# Altium schematic symbol library T491D106K035AT.SchLib: 1 symbol
Pins are listed as number, name and electrical type; pins without a type are passive.

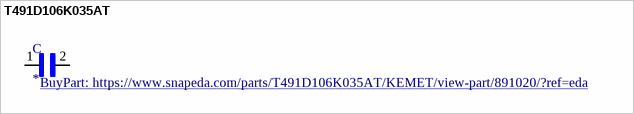
[diagram p0: symbol T491D106K035AT]

## T491D106K035AT
designator C
10ÂµF Molded Tantalum Capacitors 35V 2917 (7343 Metric) 1Ohm; MF: KEMET; MP: T491D106K035AT; Digi-Key_Part_Number: 399-3766-1-ND; Package: 2917 KEMET; SnapEDA_Link: https://www.snapeda.com/parts/T491D106K035AT/KEMET/view-part/891020/?ref=snap; Value: *; BuyPart: https://www.snapeda.com/parts/T491D106K035AT/KEMET/view-part/891020/?ref=eda
footprint CAPPM7343X310N
pins: 1, 2